# EAGLE library part ARTIK0/MGM111 (library MCUs)
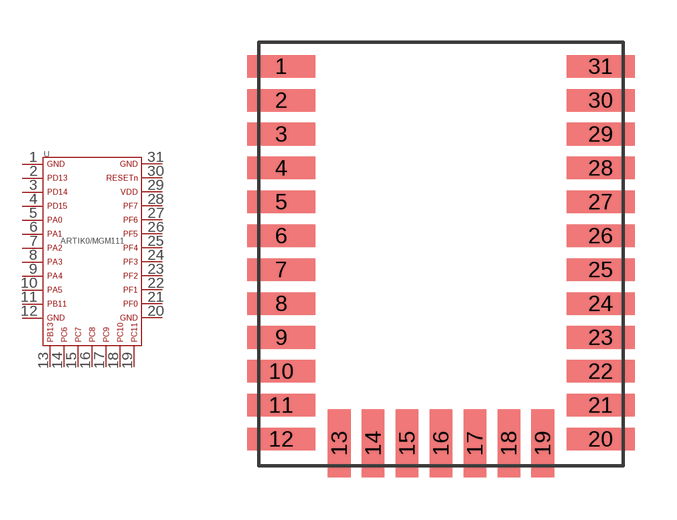
[diagram p5: symbol with the pads of ARTIK0/MGM111; footprint ARTIK0/MGM111]

Designator prefix U

## ARTIK0/MGM111  [ARTIK0/MGM111]
1  1  pas
2  2  pas
3  3  pas
4  4  pas
5  5  pas
6  6  pas
7  7  pas
8  8  pas
9  9  pas
10  10  pas
11  11  pas
12  12  pas
13  13  pas
14  14  pas
15  15  pas
16  16  pas
17  17  pas
18  18  pas
19  19  pas
20  20  pas
21  21  pas
22  22  pas
23  23  pas
24  24  pas
25  25  pas
26  26  pas
27  27  pas
28  28  pas
29  29  pas
30  30  pas
31  31  pas

## Footprint ARTIK0/MGM111 (pad centres in mm)
smd 2.4 x 0.8: 1 -5.65,6.6; 2 -5.65,5.4; 3 -5.65,4.2; 4 -5.65,3; 5 -5.65,1.8; 6 -5.65,0.6; 7 -5.65,-0.6; 8 -5.65,-1.8; 9 -5.65,-3; 10 -5.65,-4.2; 11 -5.65,-5.4; 12 -5.65,-6.6; 20 5.65,-6.6; 21 5.65,-5.4; 22 5.65,-4.2; 23 5.65,-3; 24 5.65,-1.8; 25 5.65,-0.6; 26 5.65,0.6; 27 5.65,1.8; 28 5.65,3; 29 5.65,4.2; 30 5.65,5.4; 31 5.65,6.6
smd 0.8 x 2.4: 13 -3.6,-6.75; 14 -2.4,-6.75; 15 -1.2,-6.75; 16 0,-6.75; 17 1.2,-6.75; 18 2.4,-6.75; 19 3.6,-6.75